# Altium integrated library Mosfet.IntLib: 1 symbol
Pins are listed as number, name and electrical type; pins without a type are passive.

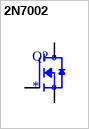
[diagram p0: symbol 2N7002]

## 2N7002
designator Q?
MOSFET, SOT-23, N, 60V, 0.28A, 5â„¦, 150Â°C; MF: Diotec Semiconductor; MP: 2N7002; SnapEDA_Link: https://www.snapeda.com/parts/2N7002/Diotec/view-part/?ref=snap; Package: SOT-23 Diotec; Value: *; Check_prices: https://www.snapeda.com/parts/2N7002/Diotec/view-part/?ref=eda
footprint TRANS_2N7002
pins: 1 G, 2 S, 3 D